# Altium schematic symbol library WR-TBL_Rising Cage Clamp.SchLib: 433 symbols (part 8 of 8)
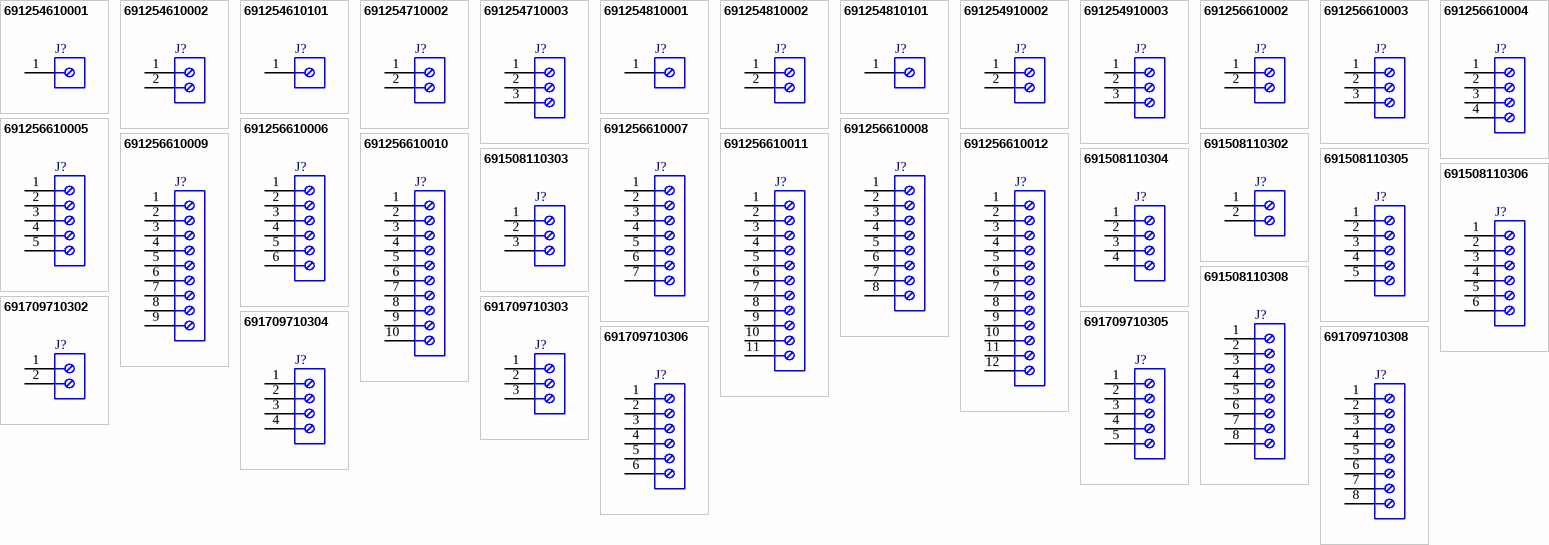
[diagram p17: symbols 691254610001 to 691709710308]

## 691709710303
designator J?  (value not drawn)
WR-TBL Series 7097 Horizontal Entry, SMT, pitch 5mm, 03p; Manufacturer: Wurth Elektronik; Modularity: No; Rated Current: 6A; Wire Section: 30 to 14 (AWG) 0.2 to 1.5 (mm^2); Working Voltage: 300V (AC); Manufacturer Part Number: 691709710303; Product Series: WR-TBL; ComponentLink1Description: Website Link; ComponentLink1URL: https://www.we-online.com; ComponentLink2Description: Datasheet Link; ComponentLink2URL: https://www.we-online.com/components/products/datasheet/691709710303; Mount: Surface Mount; Operating Temperature Min: -40degC; Operating Temperature Max: 130degC; Packaging: Tape and Reel; Application: Rising Cage Clamp; Number of Pins: 3; Number of Rows: 1; Orientation: Horizontal; Lead Pitch: 5mm
footprint 691709710303
pins: 1, 2, 3

## 691709710304
designator J?  (value not drawn)
WR-TBL Series 7097 Horizontal Entry, SMT, pitch 5mm, 04p; Manufacturer: Wurth Elektronik; Modularity: No; Rated Current: 6A; Wire Section: 30 to 14 (AWG) 0.2 to 1.5 (mm^2); Working Voltage: 300V (AC); Manufacturer Part Number: 691709710304; Product Series: WR-TBL; ComponentLink1Description: Website Link; ComponentLink1URL: https://www.we-online.com; ComponentLink2Description: Datasheet Link; ComponentLink2URL: https://www.we-online.com/components/products/datasheet/691709710304; Mount: Surface Mount; Operating Temperature Min: -40degC; Operating Temperature Max: 130degC; Packaging: Tape and Reel; Application: Rising Cage Clamp; Number of Pins: 4; Number of Rows: 1; Orientation: Horizontal; Lead Pitch: 5mm
footprint 691709710304
pins: 1, 2, 3, 4

## 691709710305
designator J?  (value not drawn)
WR-TBL Series 7097 Horizontal Entry, SMT, pitch 5mm, 05p; Manufacturer: Wurth Elektronik; Modularity: No; Rated Current: 6A; Wire Section: 30 to 14 (AWG) 0.2 to 1.5 (mm^2); Working Voltage: 300V (AC); Manufacturer Part Number: 691709710305; Product Series: WR-TBL; ComponentLink1Description: Website Link; ComponentLink1URL: https://www.we-online.com; ComponentLink2Description: Datasheet Link; ComponentLink2URL: https://www.we-online.com/components/products/datasheet/691709710305; Mount: Surface Mount; Operating Temperature Min: -40degC; Operating Temperature Max: 130degC; Packaging: Tape and Reel; Application: Rising Cage Clamp; Number of Pins: 5; Number of Rows: 1; Orientation: Horizontal; Lead Pitch: 5mm
footprint 691709710305
pins: 1, 2, 3, 4, 5

## 691709710306
designator J?  (value not drawn)
WR-TBL Series 7097 Horizontal Entry, SMT, pitch 5mm, 06p; Manufacturer: Wurth Elektronik; Modularity: No; Rated Current: 6A; Wire Section: 30 to 14 (AWG) 0.2 to 1.5 (mm^2); Working Voltage: 300V (AC); Manufacturer Part Number: 691709710306; Product Series: WR-TBL; ComponentLink1Description: Website Link; ComponentLink1URL: https://www.we-online.com; ComponentLink2Description: Datasheet Link; ComponentLink2URL: https://www.we-online.com/components/products/datasheet/691709710306; Mount: Surface Mount; Operating Temperature Min: -40degC; Operating Temperature Max: 130degC; Packaging: Tape and Reel; Application: Rising Cage Clamp; Number of Pins: 6; Number of Rows: 1; Orientation: Horizontal; Lead Pitch: 5mm
footprint 691709710306
pins: 1, 2, 3, 4, 5, 6

## 691709710308
designator J?  (value not drawn)
WR-TBL Series 7097 Horizontal Entry, SMT, pitch 5mm, 08p; Manufacturer: Wurth Elektronik; Modularity: No; Rated Current: 6A; Wire Section: 30 to 14 (AWG) 0.2 to 1.5 (mm^2); Working Voltage: 300V (AC); Manufacturer Part Number: 691709710308; Product Series: WR-TBL; ComponentLink1Description: Website Link; ComponentLink1URL: https://www.we-online.com; ComponentLink2Description: Datasheet Link; ComponentLink2URL: https://www.we-online.com/components/products/datasheet/691709710308; Mount: Surface Mount; Operating Temperature Min: -40degC; Operating Temperature Max: 130degC; Packaging: Tape and Reel; Application: Rising Cage Clamp; Number of Pins: 8; Number of Rows: 1; Orientation: Horizontal; Lead Pitch: 5mm
footprint 691709710308
pins: 1, 2, 3, 4, 5, 6, 7, 8